# EAGLE library part DSPIC33FJ128MC802 (library Shohei)
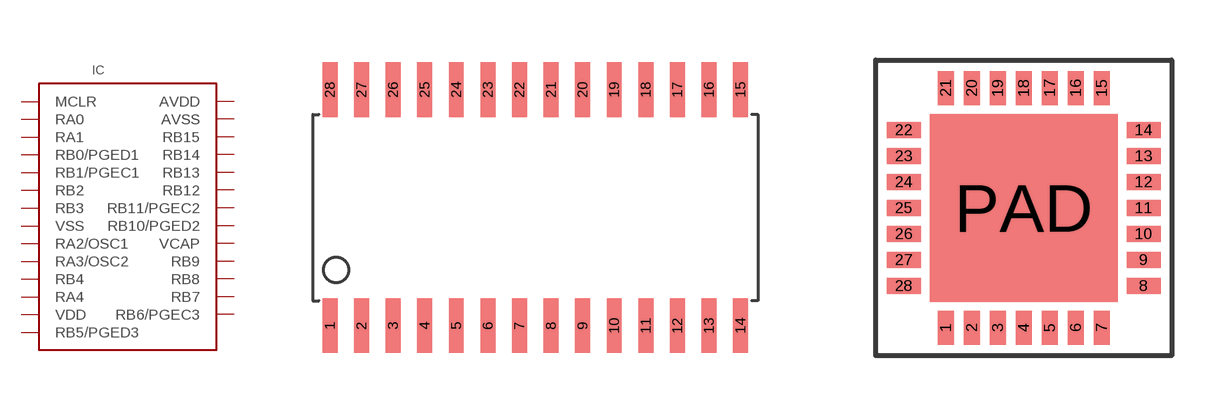
[diagram p7: symbol with the pads of SOIC28; footprints SOIC28, QFN28]

Designator prefix IC

## DSPIC33FJ128MC802  [SOIC28]
1  MCLR
2  RA0
3  RA1
4  RB0/PGED1
5  RB1/PGEC1
6  RB2
7  RB3
8  VSS
9  RA2/OSC1
10  RA3/OSC2
11  RB4
12  RA4
13  VDD
14  RB5/PGED3
15  RB6/PGEC3
16  RB7
17  RB8
18  RB9
19  VSS
20  VCAP
21  RB10/PGED2
22  RB11/PGEC2
23  RB12
24  RB13
25  RB14
26  RB15
27  AVSS
28  AVDD

## DSPIC33FJ128MC802QFN28  [QFN28]
1  RB0/PGED1
2  RB1/PGEC1
3  RB2
4  RB3
5  VSS
6  RA2/OSC1
7  RA3/OSC2
8  RB4
9  RA4
10  VDD
11  RB5/PGED3
12  RB6/PGEC3
13  RB7
14  RB8
15  RB9
16  VSS
17  VCAP
18  RB10/PGED2
19  RB11/PGEC2
20  RB12
21  RB13
22  RB14
23  RB15
24  AVSS
25  AVDD
26  MCLR
27  RA0
28  RA1
PAD  VSS

## Footprint SOIC28 (pad centres in mm)
smd 0.6 x 2.2: 1 -8.255,-4.75; 2 -6.985,-4.75; 3 -5.715,-4.75; 4 -4.445,-4.75; 5 -3.175,-4.75; 6 -1.905,-4.75; 7 -0.635,-4.75; 8 0.635,-4.75; 9 1.905,-4.75; 10 3.175,-4.75; 11 4.445,-4.75; 12 5.715,-4.75; 13 6.985,-4.75; 14 8.255,-4.75; 15 8.255,4.75; 16 6.985,4.75; 17 5.715,4.75; 18 4.445,4.75; 19 3.175,4.75; 20 1.905,4.75; 21 0.635,4.75; 22 -0.635,4.75; 23 -1.905,4.75; 24 -3.175,4.75; 25 -4.445,4.75; 26 -5.715,4.75; 27 -6.985,4.75; 28 -8.255,4.75

## Footprint QFN28 (pad centres in mm)
smd 0.4 x 0.85: 1 -1.95,-3; 2 -1.3,-3; 3 -0.65,-3; 4 0,-3; 5 0.65,-3; 6 1.3,-3; 7 1.95,-3; 15 1.95,3; 16 1.3,3; 17 0.65,3; 18 0,3; 19 -0.65,3; 20 -1.3,3; 21 -1.95,3
smd 0.85 x 0.4: 8 3,-1.95; 9 3,-1.3; 10 3,-0.65; 11 3,0; 12 3,0.65; 13 3,1.3; 14 3,1.95; 22 -3,1.95; 23 -3,1.3; 24 -3,0.65; 25 -3,0; 26 -3,-0.65; 27 -3,-1.3; 28 -3,-1.95
smd 4.7 x 4.7: PAD 0,0